# Altium schematic symbol library PA2512FKE7T0U5E.SchLib: 2 symbols
Pins are listed as number, name and electrical type; pins without a type are passive.

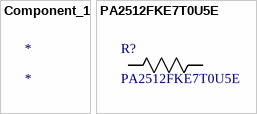
[diagram p0: symbols Component_1 to PA2512FKE7T0U5E]

## Component_1
designator *

## PA2512FKE7T0U5E
designator R?
500 µOhms ±1% 3W Chip Resistor 2512 (6332 Metric) Anti-Sulfur, Automotive AEC-Q200, Current Sense, Moisture Resistant Metal Element; Manufacturer_Name: Yageo; Copyright: Copyright (C) 2025 Ultra Librarian. All rights reserved.; Manufacturer_Part_Number: PA2512FKE7T0U5E
footprint RES_PA2512_YAG
pins: 1, 2